# Altium schematic symbol library LM5050-1-Q1.SchLib: 1 symbol
Pins are listed as number, name and electrical type; pins without a type are passive.

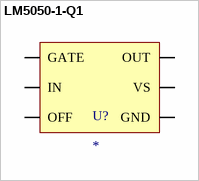
[diagram p0: symbol LM5050-1-Q1]

## LM5050-1-Q1
designator U?
pins: 1 VS, 2 GND, 3 OFF, 4 IN, 5 GATE, 6 OUT